# Altium schematic symbol library SCH_Oscillator.SchLib: 9 symbols
Pins are listed as number, name and electrical type; pins without a type are passive.

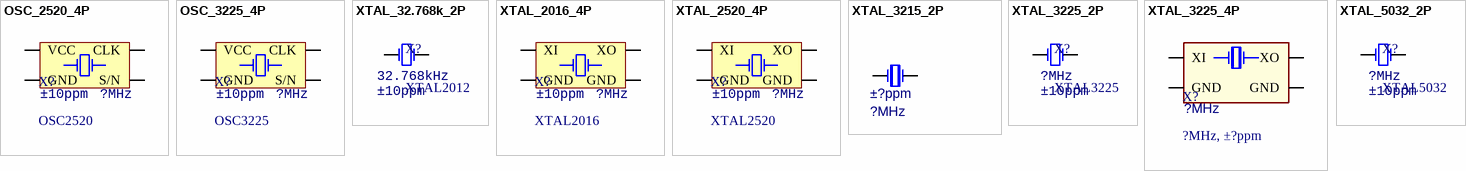
[diagram p0: symbols OSC_2520_4P to XTAL_5032_2P]

## OSC_2520_4P
designator X?, comment OSC2520  value ?MHz  Specification: ±10ppm
Crystal Oscillator; Type: OSC2520_4P; Manufacturer: *; Note: *
footprint XT_2520_4
pins: 1 S/N, 2 GND, 3 CLK, 4 VCC

## OSC_3225_4P
designator X?, comment OSC3225  value ?MHz  Specification: ±10ppm
Crystal Oscillator; Type: OSC3225_4P; Manufacturer: *; Note: *
footprint XT_3225_4
footprint OSC_2520
pins: 1 S/N, 2 GND, 3 CLK, 4 VCC

## XTAL_32.768k_2P
designator X?, comment XTAL2012  value 32.768kHz  Specification: ±10ppm
Crystal Oscillator; Type: XTAL2012_2P; Manufacturer: *; Note: *
footprint XT_3215_2
footprint XT_2012_2
pins: 1 OSC1, 2 OSC2

## XTAL_2016_4P
designator X?, comment XTAL2016  value ?MHz  Specification: ±10ppm
Crystal Oscillator; Type: XTAL2016_4P; Manufacturer: *; Note: *
footprint XT_2016_4
pins: 1 XI, 2 GND, 3 XO, 4 GND

## XTAL_2520_4P
designator X?, comment XTAL2520  value ?MHz  Specification: ±10ppm
Crystal Oscillator; Type: XTAL2520_4P; Manufacturer: *; Note: *
footprint XT_2520_4
pins: 1 XI, 2 GND, 3 XO, 4 GND

## XTAL_3215_2P
designator X?  value ?MHz  Note: ±?ppm
Crystal Oscillator; Mfr_Name: Mfr?; PartNumber: PN?; PackageReference: SMD3215_2P
footprint XT_3215_2
pins: 1 OSC1, 2 OSC2

## XTAL_3225_2P
designator X?, comment XTAL3225  value ?MHz  Specification: ±10ppm
Crystal Oscillator; Type: XTAL3225_2P; Manufacturer: *; Note: *
footprint XT_3225_2
pins: 1 OSC1, 2 OSC2

## XTAL_3225_4P
designator X?, comment ?MHz, ±?ppm  value ?MHz
Crystal Oscillator; Mfr_Name: Mfr?; PartNumber: PN?; Note: ±?ppm; PackageReference: SMD3225_4P
footprint XT_3225_4
pins: 1 XI, 2 GND, 3 XO, 4 GND

## XTAL_5032_2P
designator X?, comment XTAL5032  value ?MHz  Specification: ±10ppm
Crystal Oscillator; Type: XTAL5032_2P; Manufacturer: *; Note: *
footprint XT_5032_2
pins: 1 OSC1, 2 OSC2